# EAGLE library part DRV8825PWP (library DRV8825PWP)
DRV8825 Stepper Motor Controller IC
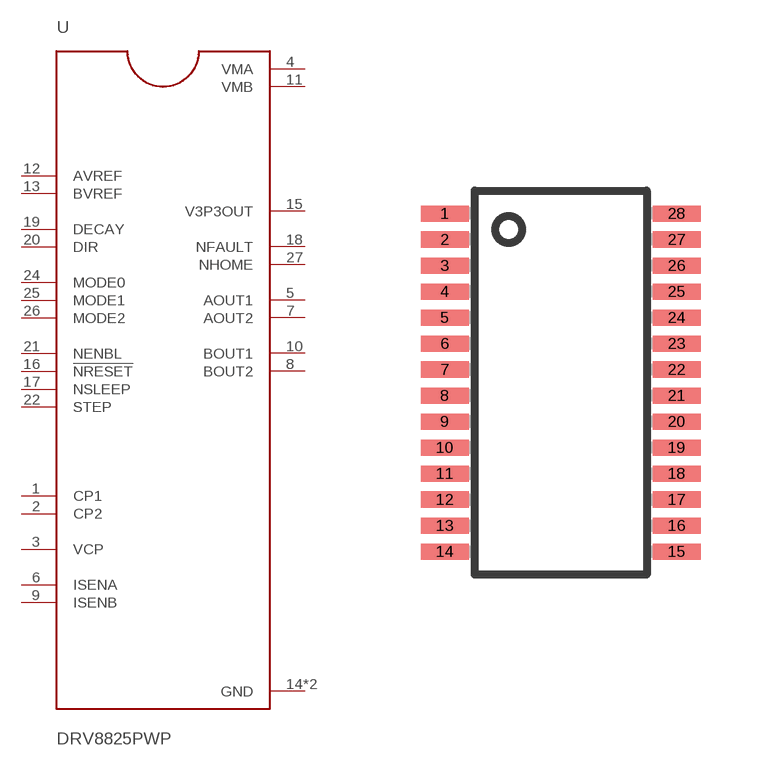
[diagram p0: symbol with the pads of SOP65P640X120-28N; footprint SOP65P640X120-28N]

Designator prefix U

## DRV8825PWP (Availability: Unavailable; Description: 2.5A Bipolar Stepper Motor Driver with On-Chip 1/32 Microstepping Indexer _Step/Dir Ctrl_ 28-HTSSOP -40 to 85; MF: Texas Instruments; MP: DRV8825PWP; Package: HTSSOP-28 Texas Instruments; Price: None)  [SOP65P640X120-28N]
1  CP1
2  CP2
3  VCP
4  VMA  pwr
5  AOUT1  out
6  ISENA
7  AOUT2  out
8  BOUT2  out
9  ISENB
10  BOUT1  out
11  VMB  pwr
12  AVREF  in
13  BVREF  in
14  GND  pas
15  V3P3OUT  out
16  !NRESET  in
17  NSLEEP  in
18  NFAULT  out
19  DECAY  in
20  DIR  in
21  NENBL  in
22  STEP  in
24  MODE0  in
25  MODE1  in
26  MODE2  in
27  NHOME  out
28  GND  pas

## Footprint SOP65P640X120-28N (pad centres in mm)
smd 1.2 x 0.4: 1 -2.9,4.225; 2 -2.9,3.575; 3 -2.9,2.925; 4 -2.9,2.275; 5 -2.9,1.625; 6 -2.9,0.975; 7 -2.9,0.325; 8 -2.9,-0.325; 9 -2.9,-0.975; 10 -2.9,-1.625; 11 -2.9,-2.275; 12 -2.9,-2.925; 13 -2.9,-3.575; 14 -2.9,-4.225; 15 2.9,-4.225; 16 2.9,-3.575; 17 2.9,-2.925; 18 2.9,-2.275; 19 2.9,-1.625; 20 2.9,-0.975; 21 2.9,-0.325; 22 2.9,0.325; 23 2.9,0.975; 24 2.9,1.625; 25 2.9,2.275; 26 2.9,2.925; 27 2.9,3.575; 28 2.9,4.225